# EAGLE library part MICRO-USB (library own_parts2)
Micro USB B connector
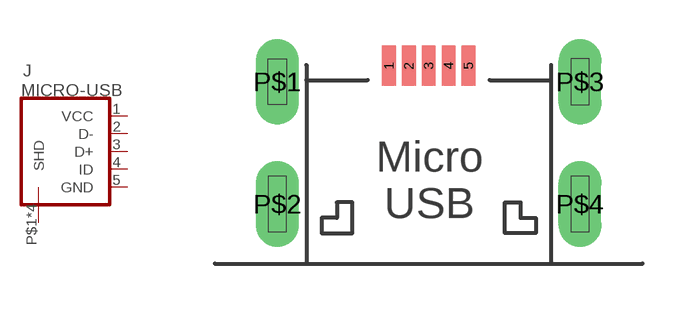
[diagram p25: symbol with the pads of MICRO-USB-2; footprint MICRO-USB-2]

Designator prefix J

## MICRO-USBV2  [MICRO-USB-2]
1  VCC  pwr
2  D-
3  D+
4  ID
5  GND  pwr
P$1  SHD
P$2  SHD
P$3  SHD
P$4  SHD

## Footprint MICRO-USB-2 (pad centres in mm)
smd 0.45 x 1.3: 1 -1.3,6.47; 2 -0.65,6.47; 3 0,6.47; 4 0.65,6.47; 5 1.3,6.47
drill 0.6 pad 1.4 long: P$1 -4.95,5.95; P$2 -4.95,1.95; P$3 4.95,5.95; P$4 4.95,1.95